# Altium schematic symbol library Schematic_library_V№3.SchLib: 4 symbols
Pins are listed as number, name and electrical type; pins without a type are passive.

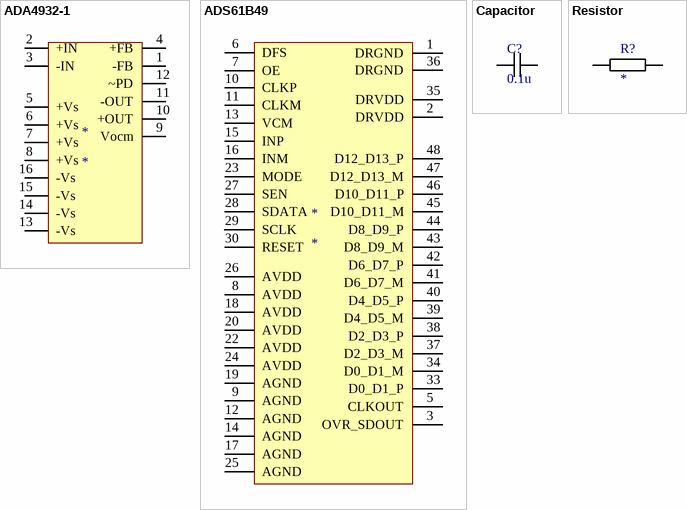
[diagram p0: symbols ADA4932-1 to Resistor]

## ADA4932-1
designator *
footprint ADA4932-1
pins: 1 -FB, 2 +IN, 3 -IN, 4 +FB, 5 +Vs, 6 +Vs, 7 +Vs, 8 +Vs, 9 Vocm, 10 +OUT, 11 -OUT, 12 ~PD, 13 -Vs, 14 -Vs, 15 -Vs, 16 -Vs

## ADS61B49
designator *
footprint ADS61B49
pins: 1 DRGND (power), 2 DRVDD (power), 3 OVR_SDOUT, 5 CLKOUT, 6 DFS, 7 OE, 8 AVDD (power), 9 AGND (power), 10 CLKP, 11 CLKM, 12 AGND (power), 13 VCM, 14 AGND (power), 15 INP, 16 INM, 17 AGND (power), 18 AVDD (power), 19 AGND (power), 20 AVDD (power), 22 AVDD (power), 23 MODE, 24 AVDD (power), 25 AGND (power), 26 AVDD (power), 27 SEN, 28 SDATA, 29 SCLK, 30 RESET, 33 D0_D1_P, 34 D0_D1_M, 35 DRVDD (power), 36 DRGND (power), 37 D2_D3_M, 38 D2_D3_P, 39 D4_D5_M, 40 D4_D5_P, 41 D6_D7_M, 42 D6_D7_P, 43 D8_D9_M, 44 D8_D9_P, 45 D10_D11_M, 46 D10_D11_P, 47 D12_D13_M, 48 D12_D13_P

## Capacitor
designator C?, comment 0.1u
footprint Capacitor (C?)
pins: 1, 2

## Resistor
designator R?
footprint Resistor (R?)
pins: 1, 2